# EAGLE library part 146134-34 (library con-tyco-mod-II)
HEADER
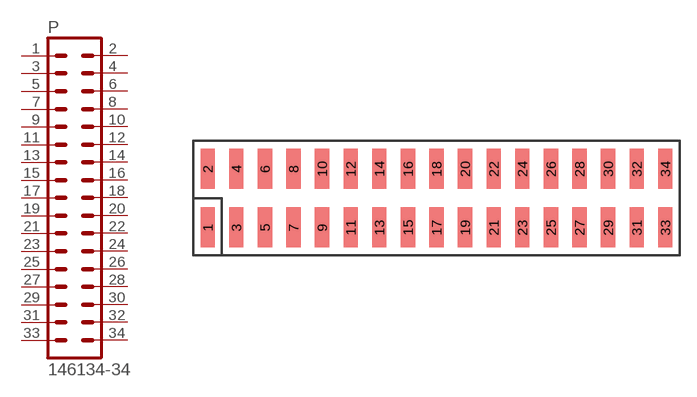
[diagram p14: symbol with the pads of 146134-34; footprint 146134-34]

Designator prefix P

## 146134-34  [146134-34]
1  1  pas
2  2  pas
3  3  pas
4  4  pas
5  5  pas
6  6  pas
7  7  pas
8  8  pas
9  9  pas
10  10  pas
11  11  pas
12  12  pas
13  13  pas
14  14  pas
15  15  pas
16  16  pas
17  17  pas
18  18  pas
19  19  pas
20  20  pas
21  21  pas
22  22  pas
23  23  pas
24  24  pas
25  25  pas
26  26  pas
27  27  pas
28  28  pas
29  29  pas
30  30  pas
31  31  pas
32  32  pas
33  33  pas
34  34  pas

## Footprint 146134-34 (pad centres in mm)
HEADER
smd 1.27 x 3.556: 1 -20.32,-2.603; 2 -20.32,2.603; 3 -17.78,-2.603; 4 -17.78,2.603; 5 -15.24,-2.603; 6 -15.24,2.603; 7 -12.7,-2.603; 8 -12.7,2.603; 9 -10.16,-2.603; 10 -10.16,2.603; 11 -7.62,-2.603; 12 -7.62,2.603; 13 -5.08,-2.603; 14 -5.08,2.603; 15 -2.54,-2.603; 16 -2.54,2.603; 17 0,-2.603; 18 0,2.603; 19 2.54,-2.603; 20 2.54,2.603; 21 5.08,-2.603; 22 5.08,2.603; 23 7.62,-2.603; 24 7.62,2.603; 25 10.16,-2.603; 26 10.16,2.603; 27 12.7,-2.603; 28 12.7,2.603; 29 15.24,-2.603; 30 15.24,2.603; 31 17.78,-2.603; 32 17.78,2.603; 33 20.32,-2.603; 34 20.32,2.603